# EAGLE library part ADS41B29IRGZT (library texas-adcs)
None
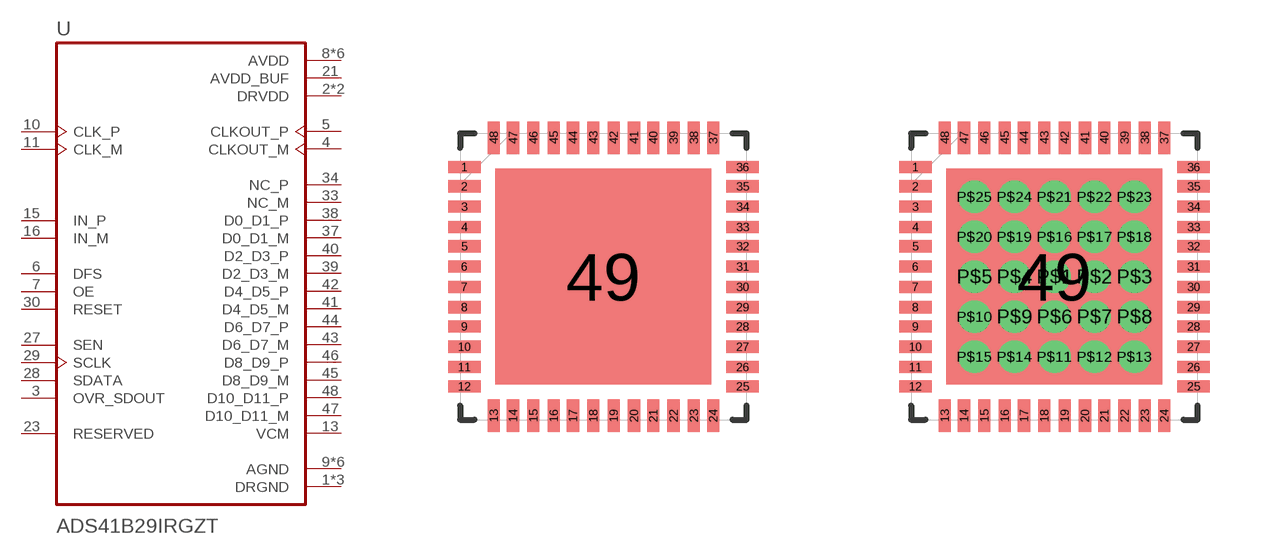
[diagram p1: symbol with the pads of QFN50P700X700X100-49N; footprints QFN50P700X700X100-49N, QFN50P700X700X100-49N-TV]

Designator prefix U

## ADS41B29IRGZT (AVAILABILITY: Good; DESCRIPTION: IC ADC 12BIT SRL 250MSPS 48VQFN; MF: Texas Instruments; MP: ADS41B29IRGZT; PACKAGE: VQFN-48 Texas Instruments; PRICE: 56.78 USD)  [QFN50P700X700X100-49N]
1  DRGND  pwr
2  DRVDD  pwr
3  OVR_SDOUT  out
4  CLKOUT_M  out
5  CLKOUT_P  out
6  DFS  in
7  OE  in
8  AVDD  pwr
9  AGND  pwr
10  CLK_P  in
11  CLK_M  in
12  AGND  pwr
13  VCM  out
14  AGND  pwr
15  IN_P  in
16  IN_M  in
17  AGND  pwr
18  AVDD  pwr
19  AGND  pwr
20  AVDD  pwr
21  AVDD_BUF  pwr
22  AVDD  pwr
23  RESERVED  in
24  AVDD  pwr
25  AGND  pwr
26  AVDD  pwr
27  SEN  in
28  SDATA  in
29  SCLK  in
30  RESET  in
33  NC_M  out
34  NC_P  out
35  DRVDD  pwr
36  DRGND  pwr
37  D0_D1_M  out
38  D0_D1_P  out
39  D2_D3_M  out
40  D2_D3_P  out
41  D4_D5_M  out
42  D4_D5_P  out
43  D6_D7_M  out
44  D6_D7_P  out
45  D8_D9_M  out
46  D8_D9_P  out
47  D10_D11_M  out
48  D10_D11_P  out
49  DRGND  pwr

## ADS41B29IRGZTTV (AVAILABILITY: Good; DESCRIPTION: IC ADC 12BIT SRL 250MSPS 48VQFN; MF: Texas Instruments; MP: ADS41B29IRGZT; PACKAGE: VQFN-48 Texas Instruments; PRICE: 56.78 USD)  [QFN50P700X700X100-49N-TV]
1  DRGND  pwr
2  DRVDD  pwr
3  OVR_SDOUT  out
4  CLKOUT_M  out
5  CLKOUT_P  out
6  DFS  in
7  OE  in
8  AVDD  pwr
9  AGND  pwr
10  CLK_P  in
11  CLK_M  in
12  AGND  pwr
13  VCM  out
14  AGND  pwr
15  IN_P  in
16  IN_M  in
17  AGND  pwr
18  AVDD  pwr
19  AGND  pwr
20  AVDD  pwr
21  AVDD_BUF  pwr
22  AVDD  pwr
23  RESERVED  in
24  AVDD  pwr
25  AGND  pwr
26  AVDD  pwr
27  SEN  in
28  SDATA  in
29  SCLK  in
30  RESET  in
33  NC_M  out
34  NC_P  out
35  DRVDD  pwr
36  DRGND  pwr
37  D0_D1_M  out
38  D0_D1_P  out
39  D2_D3_M  out
40  D2_D3_P  out
41  D4_D5_M  out
42  D4_D5_P  out
43  D6_D7_M  out
44  D6_D7_P  out
45  D8_D9_M  out
46  D8_D9_P  out
47  D10_D11_M  out
48  D10_D11_P  out
49  DRGND  pwr
P$1  DRGND  pwr
P$2  DRGND  pwr
P$3  DRGND  pwr
P$4  DRGND  pwr
P$5  DRGND  pwr
P$6  DRGND  pwr
P$7  DRGND  pwr
P$8  DRGND  pwr
P$9  DRGND  pwr
P$10  DRGND  pwr
P$11  DRGND  pwr
P$12  DRGND  pwr
P$13  DRGND  pwr
P$14  DRGND  pwr
P$15  DRGND  pwr
P$16  DRGND  pwr
P$17  DRGND  pwr
P$18  DRGND  pwr
P$19  DRGND  pwr
P$20  DRGND  pwr
P$21  DRGND  pwr
P$22  DRGND  pwr
P$23  DRGND  pwr
P$24  DRGND  pwr
P$25  DRGND  pwr

## Footprint QFN50P700X700X100-49N (pad centres in mm)
smd 0.813 x 0.305: 1 -3.48,2.743; 2 -3.48,2.261; 3 -3.48,1.753; 4 -3.48,1.245; 5 -3.48,0.762; 6 -3.48,0.254; 7 -3.48,-0.254; 8 -3.48,-0.762; 9 -3.48,-1.245; 10 -3.48,-1.753; 11 -3.48,-2.261; 12 -3.48,-2.743; 25 3.48,-2.743; 26 3.48,-2.261; 27 3.48,-1.753; 28 3.48,-1.245; 29 3.48,-0.762; 30 3.48,-0.254; 31 3.48,0.254; 32 3.48,0.762; 33 3.48,1.245; 34 3.48,1.753; 35 3.48,2.261; 36 3.48,2.743
smd 0.305 x 0.813: 13 -2.743,-3.48; 14 -2.261,-3.48; 15 -1.753,-3.48; 16 -1.245,-3.48; 17 -0.762,-3.48; 18 -0.254,-3.48; 19 0.254,-3.48; 20 0.762,-3.48; 21 1.245,-3.48; 22 1.753,-3.48; 23 2.261,-3.48; 24 2.743,-3.48; 37 2.743,3.48; 38 2.261,3.48; 39 1.753,3.48; 40 1.245,3.48; 41 0.762,3.48; 42 0.254,3.48; 43 -0.254,3.48; 44 -0.762,3.48; 45 -1.245,3.48; 46 -1.753,3.48; 47 -2.261,3.48; 48 -2.743,3.48
smd 5.4 x 5.4: 49 0,0

## Footprint QFN50P700X700X100-49N-TV (pad centres in mm)
smd 0.813 x 0.305: 1 -3.48,2.743; 2 -3.48,2.261; 3 -3.48,1.753; 4 -3.48,1.245; 5 -3.48,0.762; 6 -3.48,0.254; 7 -3.48,-0.254; 8 -3.48,-0.762; 9 -3.48,-1.245; 10 -3.48,-1.753; 11 -3.48,-2.261; 12 -3.48,-2.743; 25 3.48,-2.743; 26 3.48,-2.261; 27 3.48,-1.753; 28 3.48,-1.245; 29 3.48,-0.762; 30 3.48,-0.254; 31 3.48,0.254; 32 3.48,0.762; 33 3.48,1.245; 34 3.48,1.753; 35 3.48,2.261; 36 3.48,2.743
smd 0.305 x 0.813: 13 -2.743,-3.48; 14 -2.261,-3.48; 15 -1.753,-3.48; 16 -1.245,-3.48; 17 -0.762,-3.48; 18 -0.254,-3.48; 19 0.254,-3.48; 20 0.762,-3.48; 21 1.245,-3.48; 22 1.753,-3.48; 23 2.261,-3.48; 24 2.743,-3.48; 37 2.743,3.48; 38 2.261,3.48; 39 1.753,3.48; 40 1.245,3.48; 41 0.762,3.48; 42 0.254,3.48; 43 -0.254,3.48; 44 -0.762,3.48; 45 -1.245,3.48; 46 -1.753,3.48; 47 -2.261,3.48; 48 -2.743,3.48
smd 5.4 x 5.4: 49 0,0
drill 0.3: P$1 0,0; P$2 1,0; P$3 2,0; P$4 -1,0; P$5 -2,0; P$6 0,-1; P$7 1,-1; P$8 2,-1; P$9 -1,-1; P$10 -2,-1; P$11 0,-2; P$12 1,-2; P$13 2,-2; P$14 -1,-2; P$15 -2,-2; P$16 0,1; P$17 1,1; P$18 2,1; P$19 -1,1; P$20 -2,1; P$21 0,2; P$22 1,2; P$23 2,2; P$24 -1,2; P$25 -2,2